# EAGLE library part DF11-10DP (library connectors)
Hirose DF11 10-pos Through Hole
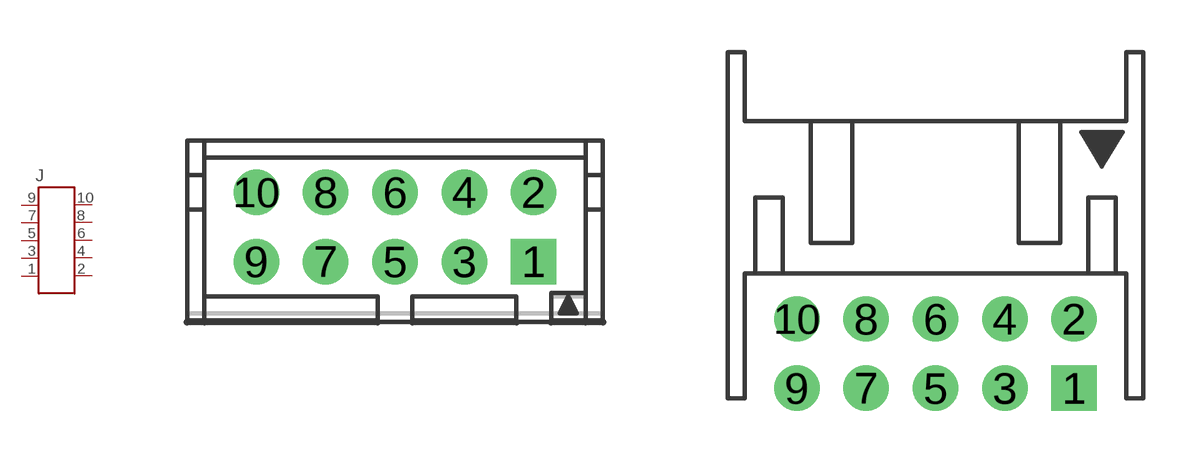
[diagram p2: symbol with the pads of DF11-10DP-2DSA; footprints DF11-10DP-2DSA, DF11-10DP-2DS]

Designator prefix J

## DF11-10DP-2DSA, DF11-10DP(01)-2DSA (MF: Hirose; MPN: DF11-10DP-2DSA(01); REVIEWED: NO; TESTED: NO)  [DF11-10DP-2DSA]
1  1
2  2
3  3
4  4
5  5
6  6
7  7
8  8
9  9
10  10

## DF11-10DP-2DS (MF: Hirose; MPN: DF11-10DP-2DS(52); REVIEWED: NO; TESTED: NO)  [DF11-10DP-2DS]
Pads as for DF11-10DP-2DSA

## Footprint DF11-10DP-2DSA (pad centres in mm)
Hirose DF11 10-Pos Vert Thru-Hole http://www.hirose.co.jp/cataloge_hp/2d/EDC3-080371-02.pdf
drill 0.8 square: 1 4,-1
drill 0.8: 2 4,1; 3 2,-1; 4 2,1; 5 0,-1; 6 0,1; 7 -2,-1; 8 -2,1; 9 -4,-1; 10 -4,1

## Footprint DF11-10DP-2DS (pad centres in mm)
drill 0.8 square: 1 4,-5.31
drill 0.8: 2 4,-3.31; 3 2,-5.31; 4 2,-3.31; 5 0,-5.31; 6 0,-3.31; 7 -2,-5.31; 8 -2,-3.31; 9 -4,-5.31; 10 -4,-3.31